# Altium schematic symbol library ABM8G-16.000MHZ-B4Y-T.SchLib: 1 symbol
Pins are listed as number, name and electrical type; pins without a type are passive.

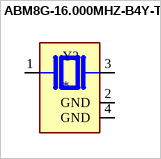
[diagram p0: symbol ABM8G-16.000MHZ-B4Y-T]

## ABM8G-16.000MHZ-B4Y-T
designator Y?
16 MHz Â±30ppm Kristal 10pF 80 Ohm 4-SMD, KurÅŸunsuz; MF: Abracon; MP: ABM8G-16.000MHZ-B4Y-T; Package: SMD-4 Abracon; Price: None; Availability: In Stock; Check_prices: https://www.snapeda.com/parts/ABM8G-16.000MHZ-B4Y-T/Abracon+LLC/view-part/?ref=eda; Purchase-URL: https://pricing.snapeda.com/search/part/ABM8G-16.000MHZ-B4Y-T/?ref=eda; SnapEDA_Link: https://www.snapeda.com/parts/ABM8G-16.000MHZ-B4Y-T/Abracon+LLC/view-part/?ref=snap; Value: *
footprint XTAL_ABM8G-16.000MHZ-B4Y-T
pins: 1, 2 GND (power), 3 2, 4 GND (power)